# Altium schematic symbol library Schlib1.SchLib: 6 symbols
Pins are listed as number, name and electrical type; pins without a type are passive.

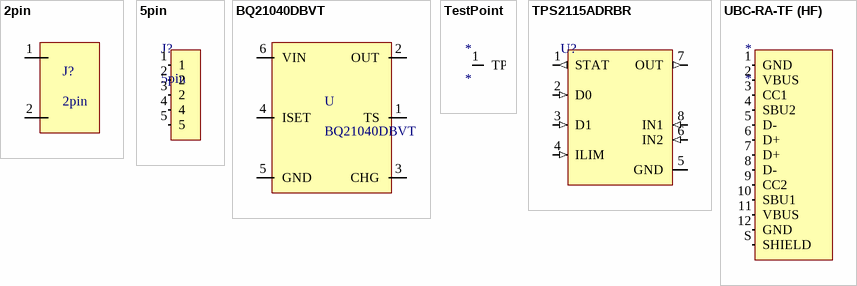
[diagram p0: symbols 2pin to UBC-RA-TF (HF)]

## 2pin
designator J?
pins: 1, 2

## 5pin
designator J?
pins: 1, 2, 3 2, 4, 5

## BQ21040DBVT
designator U
pins: 1 TS, 2 OUT, 3 CHG, 4 ISET, 5 GND, 6 VIN

## TestPoint
designator *
pins: 1 TP

## TPS2115ADRBR
designator U?
pins: 1 STAT (out), 2 D0 (in), 3 D1 (in), 4 ILIM (in), 5 GND (power), 6 IN2 (in), 7 OUT (out), 8 IN1 (in)

## UBC-RA-TF (HF)
designator *
footprint UBC-RA-TF
pins: 1 GND (power), 2 VBUS (power), 3 CC1, 4 SBU2, 5 D- (io), 6 D+ (io), 7 D+ (io), 8 D- (io), 9 CC2, 10 SBU1, 11 VBUS (power), 12 GND (power), S SHIELD